# EAGLE library part 82C50A (library micro-harris)
MICROCONTROLLER/MEMORY DEVICE
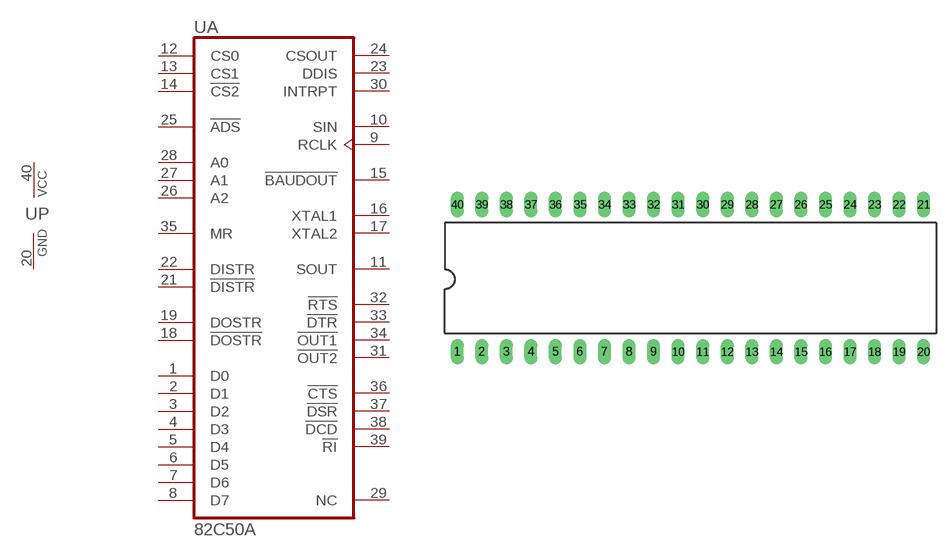
[diagram p20: symbol with the pads of DIL40; footprint DIL40]

Designator prefix U; gates A=82C50A P=PWRN

## 82C50A  [DIL40]
1  A:D0
2  A:D1
3  A:D2
4  A:D3
5  A:D4
6  A:D5
7  A:D6
8  A:D7
9  A:RCLK  in
10  A:SIN  in
11  A:SOUT  out
12  A:CS0  in
13  A:CS1  in
14  A:!CS2!  in
15  A:!BAUDOUT!  out
16  A:XTAL1  in
17  A:XTAL2  out
18  A:!DOSTR!  in
19  A:DOSTR  in
20  P:GND  pwr
21  A:!DISTR!  in
22  A:DISTR  in
23  A:DDIS  out
24  A:CSOUT  out
25  A:!ADS!  in
26  A:A2  in
27  A:A1  in
28  A:A0  in
29  A:NC  nc
30  A:INTRPT  out
31  A:!OUT2!  out
32  A:!RTS!  out
33  A:!DTR!  out
34  A:!OUT1!  out
35  A:MR  in
36  A:!CTS!  in
37  A:!DSR!  in
38  A:!DCD!  in
39  A:!RI!  in
40  P:VCC  pwr

## Footprint DIL40 (pad centres in mm)
Dual In Line Package
drill 0.813 long: 1 -24.13,-7.62; 2 -21.59,-7.62; 3 -19.05,-7.62; 4 -16.51,-7.62; 5 -13.97,-7.62; 6 -11.43,-7.62; 7 -8.89,-7.62; 8 -6.35,-7.62; 9 -3.81,-7.62; 10 -1.27,-7.62; 11 1.27,-7.62; 12 3.81,-7.62; 13 6.35,-7.62; 14 8.89,-7.62; 15 11.43,-7.62; 16 13.97,-7.62; 17 16.51,-7.62; 18 19.05,-7.62; 19 21.59,-7.62; 20 24.13,-7.62; 21 24.13,7.62; 22 21.59,7.62; 23 19.05,7.62; 24 16.51,7.62; 25 13.97,7.62; 26 11.43,7.62; 27 8.89,7.62; 28 6.35,7.62; 29 3.81,7.62; 30 1.27,7.62; 31 -1.27,7.62; 32 -3.81,7.62; 33 -6.35,7.62; 34 -8.89,7.62; 35 -11.43,7.62; 36 -13.97,7.62; 37 -16.51,7.62; 38 -19.05,7.62; 39 -21.59,7.62; 40 -24.13,7.62